# Altium schematic symbol library MB0020A.01.A.1.SchLib: 1 symbol
Pins are listed as number, name and electrical type; pins without a type are passive.

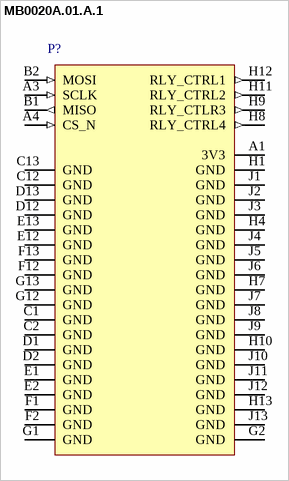
[diagram p0: symbol MB0020A.01.A.1]

## MB0020A.01.A.1
designator P?
pins: A1 3V3 (power), A3 SCLK (in), A4 CS_N (in), B1 MISO (out), B2 MOSI (in), C1 GND, C2 GND, C12 GND, C13 GND, D1 GND, D2 GND, D12 GND, D13 GND, E1 GND, E2 GND, E12 GND, E13 GND, F1 GND, F2 GND, F12 GND, F13 GND, G1 GND, G2 GND, G12 GND, G13 GND, H1 GND, H4 GND (power), H7 GND (power), H8 RLY_CTRL4 (out), H9 RLY_CTLR3 (out), H10 GND (power), H11 RLY_CTRL2 (out), H12 RLY_CTRL1 (out), H13 GND, J1 GND, J2 GND, J3 GND, J4 GND, J5 GND, J6 GND (power), J7 GND, J8 GND (power), J9 GND (power), J10 GND, J11 GND, J12 GND, J13 GND